# Altium footprint library PCB - LEADED - SOIC - ON SEMI SOIC-14 CASE 751A-03.PCBLIB: 1 footprints
Each footprint in its own frame and in the unit in brackets; x right, y up, seen from the top. Pads: shape width x height; smd on the part's side, far side on the other; paste and mask are expansions set on the pad; w line width, h text height; cw(c..) or ccw(c..) is an arc to the next point about the centre after c.
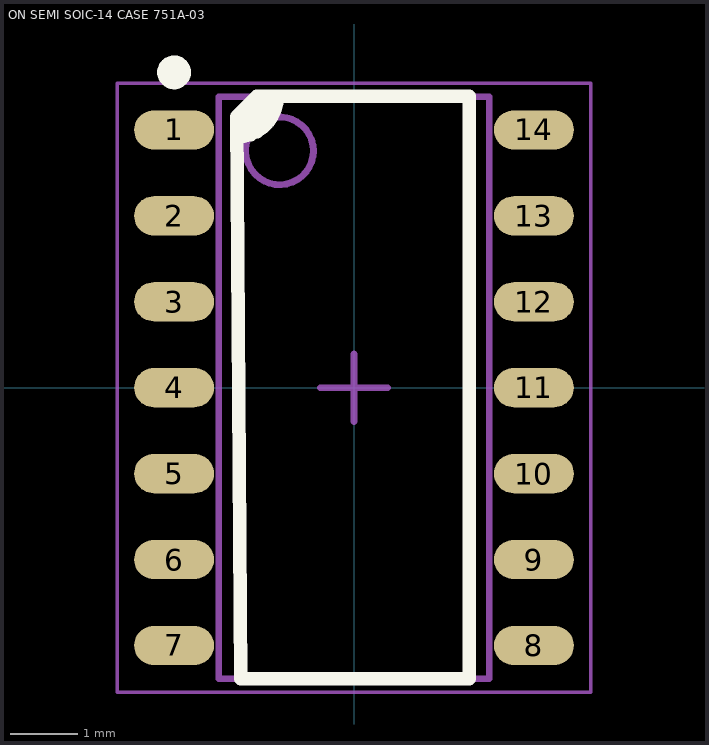
[diagram p0: the footprint, top view; thin cyan lines are the x and y axes]

## ON SEMI SOIC-14 CASE 751A-03 [mm] "SOIC-14 CASE 751A-03, 14-Leads, Body 8.75x4.0mm, Pitch 1.27mm, IPC Medium Density"
height 1.75
pads (14):
  oval 1.18x0.58 smd: 1(-2.66,3.81) 2(-2.66,2.54) 3(-2.66,1.27) 4(-2.66,0) 5(-2.66,-1.27) 6(-2.66,-2.54) 7(-2.66,-3.81) 8(2.66,-3.81) 9(2.66,-2.54) 10(2.66,-1.27) 11(2.66,0) 12(2.66,1.27) 13(2.66,2.54) 14(2.66,3.81)
Top Overlay:
  circle w0.25: c-2.66,4.66 r0.125
  region: -1.735,3.705 -1.616,3.705 -1.395,3.796 -1.226,3.965 -1.135,4.186 -1.135,4.305 -1.435,4.305 -1.735,4.005
  lines w0.2: -1.733,3.705 ccw(c-1.735,4.305) -1.135,4.305 ; -1.735,4.005 -1.672,-4.3 1.7,-4.3 1.7,4.305 -1.435,4.305 -1.735,4.005
Mechanical 13:
  circle w0.1: c-1.1,3.5 r0.5
  lines w0.1: -2,-4.3 -2,4.3 2,4.3 2,-4.3 -2,-4.3
Mechanical 15:
  lines w0.05: -3.5,-4.5 3.5,-4.5 3.5,4.5 -3.5,4.5 -3.5,-4.5
Mechanical 2 (Mech9):
  lines w0.1: -0.5,0 0.5,0 ; 0,-0.5 0,0.5
3D body "SO-14 150mil Wide.STEP": height 1.65, standoff 0, extent -3.01,-4.325 3.01,4.325